# EAGLE library part MBT3904DW2T1 (library CPSS_IC)
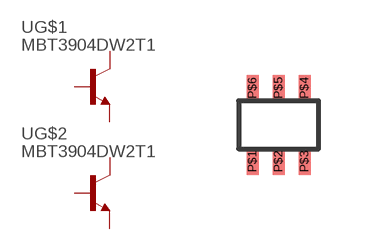
[diagram p2: symbol with the pads of SOT-363; footprint SOT-363]

Designator prefix -; gates G$1=NPN G$2=NPN

## MBT3904DW2T1  [SOT-363]
P$1  G$2:B  pas
P$2  G$1:B  pas
P$3  G$1:E  pas
P$4  G$1:C  pas
P$5  G$2:C  pas
P$6  G$2:E  pas

## Footprint SOT-363 (pad centres in mm)
smd 0.3 x 0.66: P$1 -0.65,-0.92; P$2 0,-0.92; P$3 0.65,-0.92; P$4 0.65,0.92; P$5 0,0.92; P$6 -0.65,0.92